# EAGLE library part BD09GA5WEFJ (library aarf)
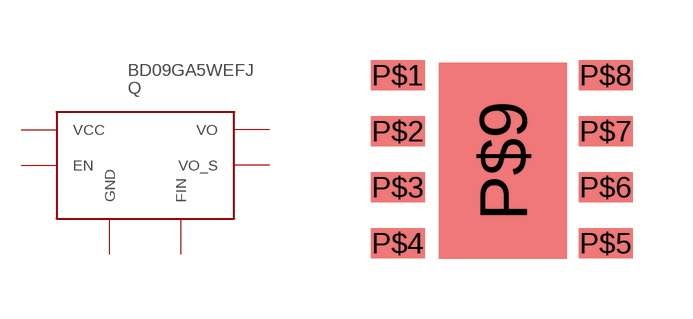
[diagram p2: symbol with the pads of HTSOP-J8; footprint HTSOP-J8]

Designator prefix Q

## BD09GA5WEFJ  [HTSOP-J8]
P$1  VO
P$2  VO_S
P$3  FIN
P$4  GND
P$5  EN
P$6  GND
P$7  GND
P$8  VCC
P$9  GND

## Footprint HTSOP-J8 (pad centres in mm)
smd 1.35 x 0.75: P$1 -2.53,2.14; P$2 -2.53,0.74; P$3 -2.53,-0.66; P$4 -2.53,-2.06; P$5 2.67,-2.06; P$6 2.67,-0.66; P$7 2.67,0.74; P$8 2.67,2.14
smd 3.2 x 4.9: P$9 0.1,0